# Altium footprint library SSOP-28.PcbLib: 1 footprints
Each footprint in its own frame and in the unit in brackets; x right, y up, seen from the top. Pads: shape width x height; smd on the part's side, far side on the other; paste and mask are expansions set on the pad; w line width, h text height; cw(c..) or ccw(c..) is an arc to the next point about the centre after c.
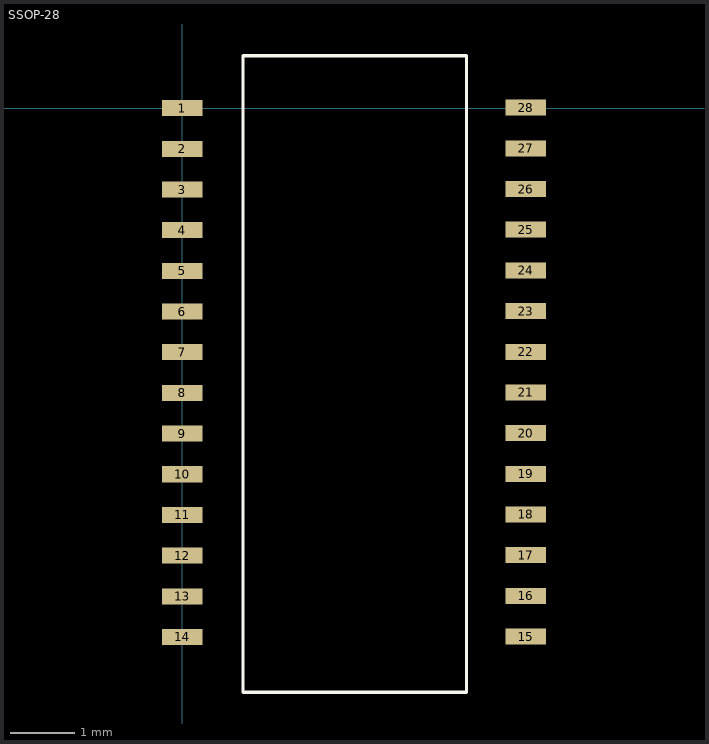
[diagram p0: the footprint, top view; thin cyan lines are the x and y axes]

## SSOP-28 [mm]
pads (28):
  rect 0.635x0.25 smd: 1(0,0) 2(0,-0.635) 3(0,-1.27) 4(0,-1.905) 5(0,-2.54) 6(0,-3.175) 7(0,-3.81) 8(0,-4.445) 9(0,-5.08) 10(0,-5.715) 11(0,-6.35) 12(0,-6.985) 13(0,-7.62) 14(0,-8.255) 15(5.365,-8.248) 16(5.365,-7.613) 17(5.365,-6.978) 18(5.365,-6.343) 19(5.365,-5.708) 20(5.365,-5.073) 21(5.365,-4.438) 22(5.365,-3.803) 23(5.365,-3.168) 24(5.365,-2.533) 25(5.365,-1.898) 26(5.365,-1.263) 27(5.365,-0.628) 28(5.365,0.007)
Top Overlay:
  lines w0.05: 0.949,-9.117 4.44,-9.117 ; 0.95,-9.116 0.95,0.817 4.441,0.817 ; 4.44,-9.116 4.44,0.817